# EAGLE library part TMS-110-XX-XX-D (library TMS-110-XX-XX-D-plus-Trace-JTAG)
050" x .100" .018" Square Post Terminal Strip.
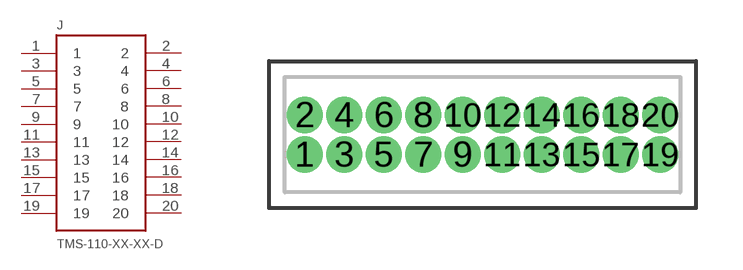
[diagram p0: symbol with the pads of TMS-110-XX-XX-D; footprint TMS-110-XX-XX-D]

Designator prefix J

## TMS-110-XX-XX-D  [TMS-110-XX-XX-D]
1  1
2  2
3  3
4  4
5  5
6  6
7  7
8  8
9  9
10  10
11  11
12  12
13  13
14  14
15  15
16  16
17  17
18  18
19  19
20  20

## Footprint TMS-110-XX-XX-D (pad centres in mm)
050" x .100" .018" Square Post Terminal Strip.
drill 0.66 pad 0.914 round: 1 -5.715,0; 2 -5.715,1.27; 3 -4.445,0; 4 -4.445,1.27; 5 -3.175,0; 6 -3.175,1.27; 7 -1.905,0; 8 -1.905,1.27; 9 -0.635,0; 10 -0.635,1.27; 11 0.635,0; 12 0.635,1.27; 13 1.905,0; 14 1.905,1.27; 15 3.175,0; 16 3.175,1.27; 17 4.445,0; 18 4.445,1.27; 19 5.715,0; 20 5.715,1.27